# Altium footprint library SON110P970X1010X230-18N.PcbLib: 1 footprints
Each footprint in its own frame and in the unit in brackets; x right, y up, seen from the top. Pads: shape width x height; smd on the part's side, far side on the other; paste and mask are expansions set on the pad; w line width, h text height; cw(c..) or ccw(c..) is an arc to the next point about the centre after c.
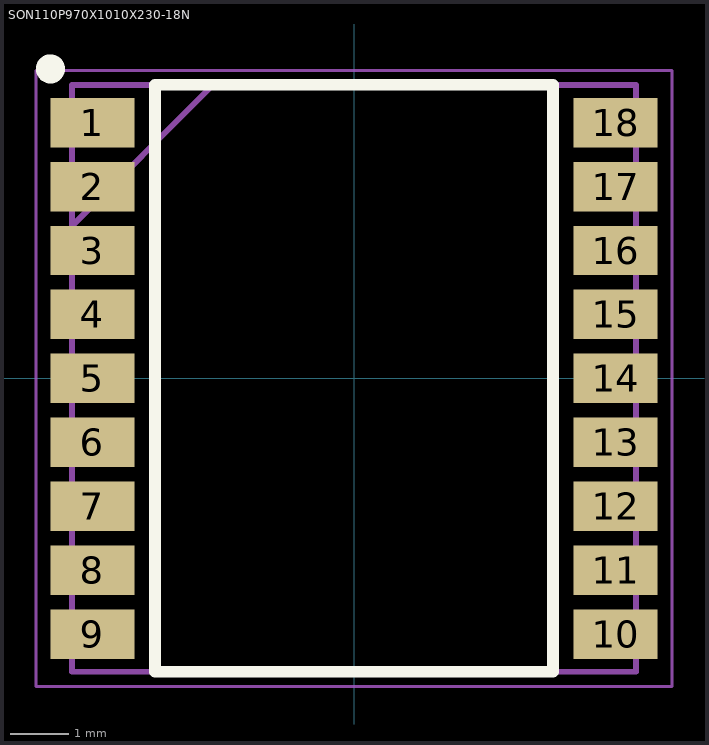
[diagram p0: the footprint, top view; thin cyan lines are the x and y axes]

## SON110P970X1010X230-18N [mm]
pads (18):
  rect 1.45x0.85 smd: 1(-4.5,4.4) 2(-4.5,3.3) 3(-4.5,2.2) 4(-4.5,1.1) 5(-4.5,0) 6(-4.5,-1.1) 7(-4.5,-2.2) 8(-4.5,-3.3) 9(-4.5,-4.4) 10(4.5,-4.4) 11(4.5,-3.3) 12(4.5,-2.2) 13(4.5,-1.1) 14(4.5,0) 15(4.5,1.1) 16(4.5,2.2) 17(4.5,3.3) 18(4.5,4.4)
Top Overlay:
  circle w0.25: c-5.225,5.325 r0.125
  lines w0.2: -3.425,-5.05 3.425,-5.05 3.425,5.05 -3.425,5.05 -3.425,-5.05
Mechanical 15:
  lines w0.1: -4.85,2.625 -2.425,5.05 ; -4.85,-5.05 4.85,-5.05 4.85,5.05 -4.85,5.05 -4.85,-5.05
Mechanical 20:
  lines w0.05: -5.475,-5.3 5.475,-5.3 5.475,5.3 -5.475,5.3 -5.475,-5.3